# Altium footprint library ACSIP.PcbLib: 1 footprints
Each footprint in its own frame and in the unit in brackets; x right, y up, seen from the top. Pads: shape width x height; smd on the part's side, far side on the other; paste and mask are expansions set on the pad; w line width, h text height; cw(c..) or ccw(c..) is an arc to the next point about the centre after c.
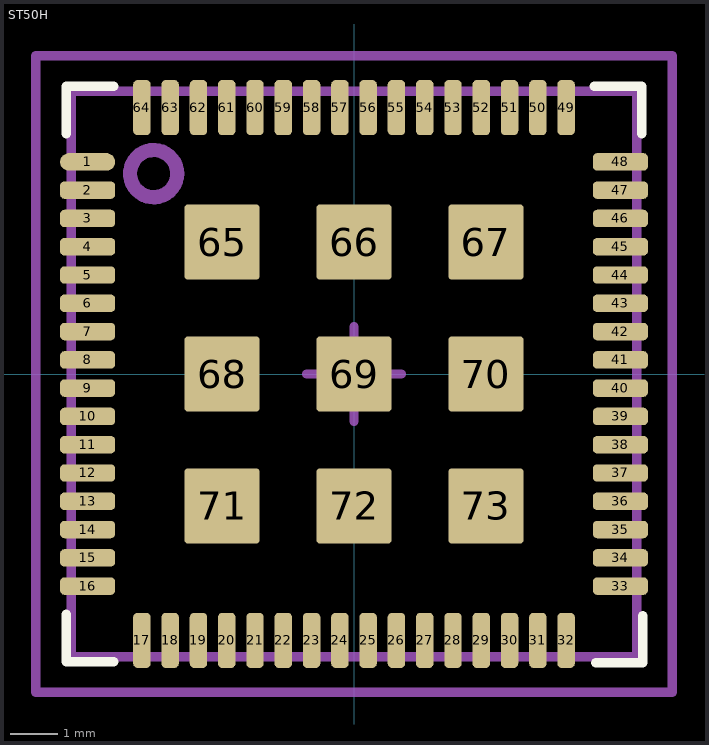
[diagram p0: the footprint, top view; thin cyan lines are the x and y axes]

## ST50H [mm] "ST50H"
height 1
pads (73):
  oval 1.17x0.37 smd: 1(-5.65,4.5)
  rrect50% 1.17x0.37 smd: 2(-5.65,3.9) 3(-5.65,3.3) 4(-5.65,2.7) 5(-5.65,2.1) 6(-5.65,1.5) 7(-5.65,0.9) 8(-5.65,0.3) 9(-5.65,-0.3) 10(-5.65,-0.9) 11(-5.65,-1.5) 12(-5.65,-2.1) 13(-5.65,-2.7) 14(-5.65,-3.3) 15(-5.65,-3.9) 16(-5.65,-4.5) 33(5.65,-4.5) 34(5.65,-3.9) 35(5.65,-3.3) 36(5.65,-2.7) 37(5.65,-2.1) 38(5.65,-1.5) 39(5.65,-0.9) 40(5.65,-0.3) 41(5.65,0.3) 42(5.65,0.9) 43(5.65,1.5) 44(5.65,2.1) 45(5.65,2.7) 46(5.65,3.3) 47(5.65,3.9) 48(5.65,4.5)
  rrect50% 0.37x1.17 smd: 17(-4.5,-5.65) 18(-3.9,-5.65) 19(-3.3,-5.65) 20(-2.7,-5.65) 21(-2.1,-5.65) 22(-1.5,-5.65) 23(-0.9,-5.65) 24(-0.3,-5.65) 25(0.3,-5.65) 26(0.9,-5.65) 27(1.5,-5.65) 28(2.1,-5.65) 29(2.7,-5.65) 30(3.3,-5.65) 31(3.9,-5.65) 32(4.5,-5.65) 49(4.5,5.65) 50(3.9,5.65) 51(3.3,5.65) 52(2.7,5.65) 53(2.1,5.65) 54(1.5,5.65) 55(0.9,5.65) 56(0.3,5.65) 57(-0.3,5.65) 58(-0.9,5.65) 59(-1.5,5.65) 60(-2.1,5.65) 61(-2.7,5.65) 62(-3.3,5.65) 63(-3.9,5.65) 64(-4.5,5.65)
  rrect10% 1.6x1.6 smd: 65(-2.8,2.8) 66(0,2.8) 67(2.8,2.8) 68(-2.8,0) 69(0,0) 70(2.8,0) 71(-2.8,-2.8) 72(0,-2.8) 73(2.8,-2.8)
Top Overlay:
  lines w0.2: -6.1,-5.1 -6.1,-6.1 -5.1,-6.1 ; -6.1,5.1 -6.1,6.1 -5.1,6.1 ; 5.1,6.1 6.1,6.1 6.1,5.1 ; 5.125,-6.125 6.125,-6.125 6.125,-5.125
3D Top:
  circle w0.3: c-4.25,4.25 r0.5
  lines w0.2: -6,-6 -6,6 6,6 6,-6 -6,-6
Courtyard Top:
  lines w0.2: -1,0 1,0 ; 0,-1 0,1 ; -6.75,-6.75 -6.75,6.75 6.75,6.75 6.75,-6.75 -6.75,-6.75
3D body: height 1.3, standoff 0, extent -6,-6 6,6
3D body: height 1.35, standoff 0, extent -4.746,3.751 -3.75,4.749